# Altium schematic symbol library tcal9539pwr.SchLib: 1 symbol
Pins are listed as number, name and electrical type; pins without a type are passive.

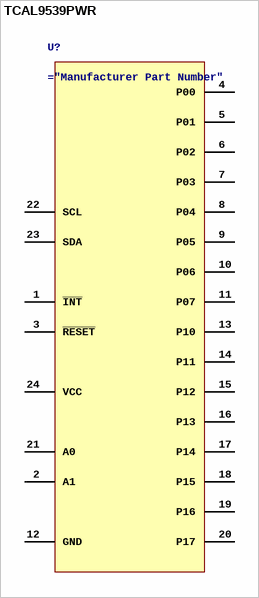
[diagram p0: symbol TCAL9539PWR]

## TCAL9539PWR
designator U?
I/O Expander 16 I2C, SMBus 1 MHz 24-TSSOP
pins: 1 ~{INT}, 2 A1, 3 ~{RESET}, 4 P00, 5 P01, 6 P02, 7 P03, 8 P04, 9 P05, 10 P06, 11 P07, 12 GND, 13 P10, 14 P11, 15 P12, 16 P13, 17 P14, 18 P15, 19 P16, 20 P17, 21 A0, 22 SCL, 23 SDA, 24 VCC